# Altium schematic symbol library Drivers.SchLib: 3 symbols
Pins are listed as number, name and electrical type; pins without a type are passive.

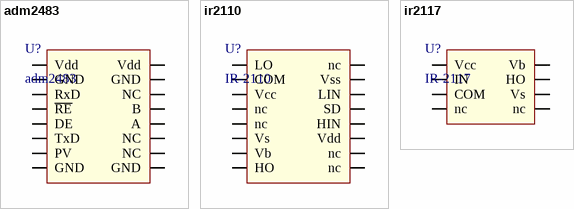
[diagram p0: symbols adm2483 to ir2117]

## adm2483
designator U?
драйвер rs-485
footprint adm_2483 (Footprint not found)
pins: 1 Vdd, 2 GND, 3 RxD, 4 ~{RE}, 5 DE, 6 TxD, 7 PV, 8 GND, 9 GND, 10 NC, 11 NC, 12 A, 13 B, 14 NC, 15 GND, 16 Vdd

## ir2110
designator U?, comment IR-2110
Gate Driver драйвер затвора транзистора Mosfete
footprint IR2110 (Footprint not found)
pins: 1 LO, 2 COM, 3 Vcc, 4 nc, 5 nc, 6 Vs, 7 Vb, 8 HO, 9 nc, 10 nc, 11 Vdd, 12 HIN, 13 SD, 14 LIN, 15 Vss, 16 nc

## ir2117
designator U?, comment IR-2117
Gate Driver драйвер затвора транзистора Mosfete
footprint IR2117 (Footprint not found)
pins: 1 Vcc, 2 IN, 3 COM, 4 nc, 5 nc, 6 Vs, 7 HO, 8 Vb